# Altium footprint library Teensy 3.6.PcbLib: 1 footprints
Each footprint in its own frame and in the unit in brackets; x right, y up, seen from the top. Pads: shape width x height; smd on the part's side, far side on the other; paste and mask are expansions set on the pad; w line width, h text height; cw(c..) or ccw(c..) is an arc to the next point about the centre after c.
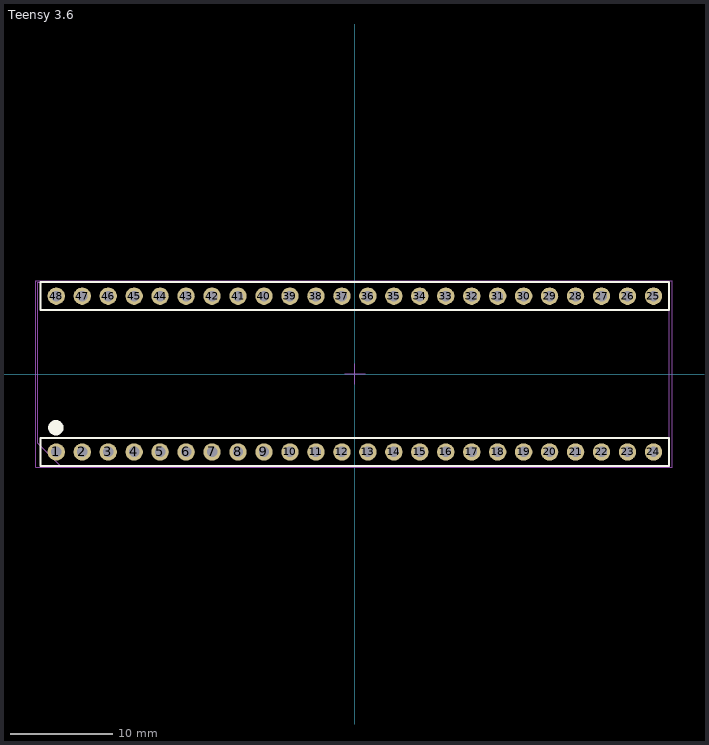
[diagram p0: the footprint, top view; thin cyan lines are the x and y axes]

## Teensy 3.6 [mm]
pads (48):
  round 1.7 hole 1.02: 1(-29.21,-7.62) 2(-26.67,-7.62) 3(-24.13,-7.62) 4(-21.59,-7.62) 5(-19.05,-7.62) 6(-16.51,-7.62) 7(-13.97,-7.62) 8(-11.43,-7.62) 9(-8.89,-7.62) 10(-6.35,-7.62) 11(-3.81,-7.62) 12(-1.27,-7.62) 13(1.27,-7.62) 14(3.81,-7.62) 15(6.35,-7.62) 16(8.89,-7.62) 17(11.43,-7.62) 18(13.97,-7.62) 19(16.51,-7.62) 20(19.05,-7.62) 21(21.59,-7.62) 22(24.13,-7.62) 23(26.67,-7.62) 24(29.21,-7.62) 25(29.21,7.62) 26(26.67,7.62) 27(24.13,7.62) 28(21.59,7.62) 29(19.05,7.62) 30(16.51,7.62) 31(13.97,7.62) 32(11.43,7.62) 33(8.89,7.62) 34(6.35,7.62) 35(3.81,7.62) 36(1.27,7.62) 37(-1.27,7.62) 38(-3.81,7.62) 39(-6.35,7.62) 40(-8.89,7.62) 41(-11.43,7.62) 42(-13.97,7.62) 43(-16.51,7.62) 44(-19.05,7.62) 45(-21.59,7.62) 46(-24.13,7.62) 47(-26.67,7.62) 48(-29.21,7.62)
Top Overlay:
  circle w0.75: c-29.25,-5.25 r0.375
  lines w0.2: -30.75,-9 -30.75,-6.25 30.75,-6.25 30.75,-9 -30.75,-9 ; -30.75,6.25 -30.75,9 30.75,9 30.75,6.25 -30.75,6.25
Mechanical 1:
  lines w0.1: -31,-6.75 -28.75,-9 30.75,-9 30.758,-8.992 30.758,8.943 30.701,9 -31,9 -31,-6.75
  text ".Designator" at -3.125,-0.408 h0.65
Mechanical 2:
  lines w0.05: -31.21,-9.12 -31.21,9.13 31.04,9.13 31.04,-9.12 -31.21,-9.12
  lines w0.1: -1,0.005 1,0.005 ; 0,-1 0,1
3D body "Teensy 3_6.STEP": height 12.07, standoff 7.8, extent -30.974,-8.89 30.374,8.89
3D body "zl305-12s_p2-54_l30-98_w2-5_h5.stp": height 5, standoff -3, extent -0.3,6.37 30.68,8.87
3D body "zl305-12s_p2-54_l30-98_w2-5_h5.stp": height 5, standoff -3, extent -30.78,6.37 0.2,8.87
3D body "zl305-12s_p2-54_l30-98_w2-5_h5.stp": height 5, standoff -3, extent -0.3,-8.87 30.68,-6.37
3D body "zl305-12s_p2-54_l30-98_w2-5_h5.stp": height 5, standoff -3, extent -30.78,-8.87 0.2,-6.37
3D body "Pin Header 1x12 TH Pitch 2.54mm.stp": height 10.99, standoff -1.71, extent -0.07,6.35 30.41,8.89
3D body "Pin Header 1x12 TH Pitch 2.54mm.stp": height 10.99, standoff -1.71, extent -30.57,6.35 -0.09,8.89
3D body "Pin Header 1x12 TH Pitch 2.54mm.stp": height 10.99, standoff -1.71, extent -0.07,-8.89 30.41,-6.35
3D body "Pin Header 1x12 TH Pitch 2.54mm.stp": height 10.99, standoff -1.71, extent -30.57,-8.89 -0.09,-6.35